# Altium integrated library Res-SMD_V2.IntLib: 2369 symbols (part 13 of 18)
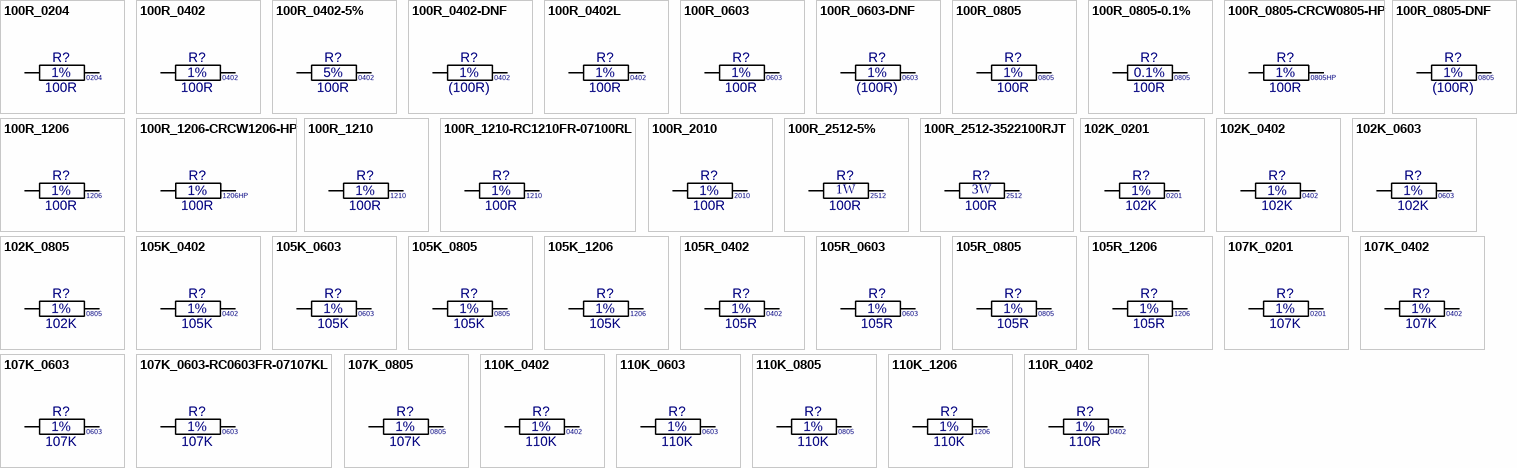
[diagram p71: symbols 100R_0204 to 110R_0402]

## 100R_0805-CRCW0805-HP
designator R?, comment value 100R  Tol: 1%  Text1: 0805HP  (hidden comment: CRCW0805100RFKEAHP)
Resistor Pulse Withstanding Thick Film; Manufacturer: Vishay; Watt: 500mW; Part Number: CRCW0805100RFKEAHP; Package: CRCW0805-HP; EDM-PN: *; Text2: *; Reutech PN: *; SAAB PN: *; DCE Part No: *
footprint CRCW0805-HP (CRCW0805 HP 2.0x1.3mm, IPC Medium Density)
pins: 1, 2

## 100R_0805-DNF
designator R?, comment value (100R)  Tol: 1%  Text1: 0805  (hidden comment: 100R[DNF]_R0805_1%)
Resistor Chip SMD - Do not Fit; Manufacturer: Various; Part Number: DNF - 100R 0805 1%; Watt: 125mW; EDM-PN: DNF; SAAB PN: 1ACF00177AEA; Package: RESC0805X65N; Text2: *; Reutech PN: *; DCE Part No: *
footprint RESC0805X65N (Chip Resistor, 0805, 2-Leads, Body 2.0x1.3mm, IPC Medium Density)
pins: 1, 2

## 100R_1206
designator R?, comment value 100R  Tol: 1%  Text1: 1206  (hidden comment: 100R_R1206_1%)
Resistor Chip SMD; Manufacturer: Various; Part Number: 100R 1206 1%; Watt: 250mW; Package: RESC1206X71N; EDM-PN: *; Text2: *; Reutech PN: 5905-97-1000; SAAB PN: *; DCE Part No: *
footprint RESC1206X71N (Chip Resistor, 1206, 2-Leads, Body 3.2x1.6mm, IPC Medium Density)
pins: 1, 2

## 100R_1206-CRCW1206-HP
designator R?, comment value 100R  Tol: 1%  Text1: 1206HP  (hidden comment: 100R_R1206_1%-CRCW1206-HP)
Resistor Chip Pulse Proof High Power Thick Film; Manufacturer: Vishay; Part Number: CRCW1206100RFKEAHP; Watt: 500mW; Package: CRCW1206-HP; EDM-PN: *; Text2: *; Reutech PN: *; SAAB PN: *; DCE Part No: *
footprint CRCW1206-HP (CCRCW1206-HP 3.2x1.6mm, IPC Medium Density)
pins: 1, 2

## 100R_1210
designator R?, comment value 100R  Tol: 1%  Text1: 1210  (hidden comment: 100R_R1210_1%)
Resistor Chip SMD; Manufacturer: Various; Part Number: 100R 1210 1%; Watt: 500mW; Package: RESC1210X71N; EDM-PN: *; Text2: *; Reutech PN: *; SAAB PN: *; DCE Part No: *
footprint RESC1210X71N (Chip Resistor, 1210, 2-Leads, Body 3.2x2.5mm, IPC Medium Density)
pins: 1, 2

## 100R_1210-RC1210FR-07100RL
designator R?, comment value 100R  Tol: 1%  Text1: 1210  (hidden comment: RC1210FR-07100RL)
Resistor Chip Moisture Resistant Thick Film; Manufacturer: Yageo; Watt: 500mW; Part Number: RC1210FR-07100RL; Package: RESC1210X71N; EDM-PN: *; Text2: *; Reutech PN: *; SAAB PN: *; DCE Part No: *
footprint RESC1210X71N (Chip Resistor, 1210, 2-Leads, Body 3.2x2.5mm, IPC Medium Density)
pins: 1, 2

## 100R_2010
designator R?, comment value 100R  Tol: 1%  Text1: 2010  (hidden comment: 100R_R2010_1%)
Resistor Chip SMD; Manufacturer: Various; Part Number: 100R 2010 1%; Watt: 500mW; Package: RESC2010X71N; EDM-PN: *; Text2: *; Reutech PN: *; SAAB PN: *; DCE Part No: *
footprint RESC2010X71N (Chip Resistor, 2010, 2-Leads, Body 5.0x2.5mm, IPC Medium Density)
pins: 1, 2

## 100R_2512-5%
designator R?, comment value 100R  Watt: 1W  Text1: 2512  (hidden comment: 100R_R2512_5%)
Resistor Chip SMD; Manufacturer: Various; Part Number: 100R 2512 5%; Tol: 5%; Package: RESC2512X71N; EDM-PN: *; Text2: *; Reutech PN: *; SAAB PN: *; DCE Part No: *
footprint RESC2512X71N (Chip Resistor, 2512, 2-Leads, Body 6.3x3.2mm, IPC Medium Density)
pins: 1, 2

## 100R_2512-3522100RJT
designator R?, comment value 100R  Watt: 3W  Text1: 2512  (hidden comment: 3522100RJT)
Resistor Chip Thick Film; Manufacturer: TE Connectivity; Tol: 5%; Part Number: 3522100RJT; Package: RESC2512X71N; EDM-PN: *; Text2: *; Reutech PN: *; SAAB PN: *; DCE Part No: *
footprint RESC2512X71N (Chip Resistor, 2512, 2-Leads, Body 6.3x3.2mm, IPC Medium Density)
pins: 1, 2

## 102K_0201
designator R?, comment value 102K  Tol: 1%  Text1: 0201  (hidden comment: 102K_R0201_1%)
Resistor Chip SMD; Manufacturer: Various; Part Number: 102K 0201 1%; Watt: 31mW; Package: RESC0201X33N; EDM-PN: *; Text2: *; Reutech PN: *; SAAB PN: *; DCE Part No: *
footprint RESC0201X33N (Chip Resistor, 0201, 2-Leads, Body 0.6x0.3mm, IPC Medium Density)
pins: 1, 2

## 102K_0402
designator R?, comment value 102K  Tol: 1%  Text1: 0402  (hidden comment: 102K_R0402_1%)
Resistor Chip SMD; Manufacturer: Various; Part Number: 102K 0402 1%; Watt: 63mW; Package: RESC0402X40N; EDM-PN: *; Text2: *; Reutech PN: *; SAAB PN: *; DCE Part No: *
footprint RESC0402X40N (Chip Resistor, 0402, 2-Leads, Body 1.1x0.5mm, IPC Medium Density)
pins: 1, 2

## 102K_0603
designator R?, comment value 102K  Tol: 1%  Text1: 0603  (hidden comment: 102K_R0603_1%)
Resistor Chip SMD; Manufacturer: Various; Part Number: 102K 0603 1%; Watt: 100mW; Package: RESC0603X60N; EDM-PN: *; Text2: *; Reutech PN: *; SAAB PN: *; DCE Part No: *
footprint RESC0603X60N (Chip Resistor, 0603, 2-Leads, Body 1.6x0.8mm, IPC Medium Density)
pins: 1, 2

## 102K_0805
designator R?, comment value 102K  Tol: 1%  Text1: 0805  (hidden comment: 102K_R0805_1%)
Resistor Chip SMD; Manufacturer: Various; Part Number: 102K 0805 1%; Watt: 125mW; Package: RESC0805X65N; EDM-PN: *; Text2: *; Reutech PN: *; SAAB PN: *; DCE Part No: *
footprint RESC0805X65N (Chip Resistor, 0805, 2-Leads, Body 2.0x1.3mm, IPC Medium Density)
pins: 1, 2

## 105K_0402
designator R?, comment value 105K  Tol: 1%  Text1: 0402  (hidden comment: 105K_R0402_1%)
Resistor Chip SMD; Manufacturer: Various; Part Number: 105K 0402 1%; Watt: 63mW; Package: RESC0402X40N; EDM-PN: *; Text2: *; Reutech PN: *; SAAB PN: *; DCE Part No: *
footprint RESC0402X40N (Chip Resistor, 0402, 2-Leads, Body 1.1x0.5mm, IPC Medium Density)
pins: 1, 2

## 105K_0603
designator R?, comment value 105K  Tol: 1%  Text1: 0603  (hidden comment: 105K_R0603_1%)
Resistor Chip SMD; Manufacturer: Various; Part Number: 105K 0603 1%; Watt: 100mW; EDM-PN: RES1514; Package: RESC0603X60N; Text2: *; Reutech PN: *; SAAB PN: *; DCE Part No: *
footprint RESC0603X60N (Chip Resistor, 0603, 2-Leads, Body 1.6x0.8mm, IPC Medium Density)
pins: 1, 2

## 105K_0805
designator R?, comment value 105K  Tol: 1%  Text1: 0805  (hidden comment: 105K_R0805_1%)
Resistor Chip SMD; Manufacturer: Various; Part Number: 105K 0805 1%; Watt: 125mW; Package: RESC0805X65N; EDM-PN: *; Text2: *; Reutech PN: *; SAAB PN: *; DCE Part No: *
footprint RESC0805X65N (Chip Resistor, 0805, 2-Leads, Body 2.0x1.3mm, IPC Medium Density)
pins: 1, 2

## 105K_1206
designator R?, comment value 105K  Tol: 1%  Text1: 1206  (hidden comment: 105K_R1206_1%)
Resistor Chip SMD; Manufacturer: Various; Part Number: 105K 1206 1%; Watt: 250mW; Package: RESC1206X71N; EDM-PN: *; Text2: *; Reutech PN: *; SAAB PN: *; DCE Part No: *
footprint RESC1206X71N (Chip Resistor, 1206, 2-Leads, Body 3.2x1.6mm, IPC Medium Density)
pins: 1, 2

## 105R_0402
designator R?, comment value 105R  Tol: 1%  Text1: 0402  (hidden comment: 105R_R0402_1%)
Resistor Chip SMD; Manufacturer: Various; Part Number: 105R 0402 1%; Watt: 63mW; Package: RESC0402X40N; EDM-PN: *; Text2: *; Reutech PN: *; SAAB PN: *; DCE Part No: *
footprint RESC0402X40N (Chip Resistor, 0402, 2-Leads, Body 1.1x0.5mm, IPC Medium Density)
pins: 1, 2

## 105R_0603
designator R?, comment value 105R  Tol: 1%  Text1: 0603  (hidden comment: 105R_R0603_1%)
Resistor Chip SMD; Manufacturer: Various; Part Number: 105R 0603 1%; Watt: 100mW; Package: RESC0603X60N; EDM-PN: *; Text2: *; Reutech PN: *; SAAB PN: *; DCE Part No: *
footprint RESC0603X60N (Chip Resistor, 0603, 2-Leads, Body 1.6x0.8mm, IPC Medium Density)
pins: 1, 2

## 105R_0805
designator R?, comment value 105R  Tol: 1%  Text1: 0805  (hidden comment: 105R_R0805_1%)
Resistor Chip SMD; Manufacturer: Various; Part Number: 105R 0805 1%; Watt: 125mW; Package: RESC0805X65N; EDM-PN: *; Text2: *; Reutech PN: *; SAAB PN: *; DCE Part No: *
footprint RESC0805X65N (Chip Resistor, 0805, 2-Leads, Body 2.0x1.3mm, IPC Medium Density)
pins: 1, 2

## 105R_1206
designator R?, comment value 105R  Tol: 1%  Text1: 1206  (hidden comment: 105R_R1206_1%)
Resistor Chip SMD; Manufacturer: Various; Part Number: 105R 1206 1%; Watt: 250mW; Package: RESC1206X71N; EDM-PN: *; Text2: *; Reutech PN: *; SAAB PN: *; DCE Part No: *
footprint RESC1206X71N (Chip Resistor, 1206, 2-Leads, Body 3.2x1.6mm, IPC Medium Density)
pins: 1, 2

## 107K_0201
designator R?, comment value 107K  Tol: 1%  Text1: 0201  (hidden comment: 107K_R0201_1%)
Resistor Chip SMD; Manufacturer: Various; Part Number: 107K 0201 1%; Watt: 31mW; Package: RESC0201X33N; EDM-PN: *; Text2: *; Reutech PN: *; SAAB PN: *; DCE Part No: *
footprint RESC0201X33N (Chip Resistor, 0201, 2-Leads, Body 0.6x0.3mm, IPC Medium Density)
pins: 1, 2

## 107K_0402
designator R?, comment value 107K  Tol: 1%  Text1: 0402  (hidden comment: 107K_R0402_1%)
Resistor Chip SMD; Manufacturer: Various; Part Number: 107K 0402 1%; Watt: 63mW; Package: RESC0402X40N; EDM-PN: *; Text2: *; Reutech PN: *; SAAB PN: *; DCE Part No: *
footprint RESC0402X40N (Chip Resistor, 0402, 2-Leads, Body 1.1x0.5mm, IPC Medium Density)
pins: 1, 2

## 107K_0603
designator R?, comment value 107K  Tol: 1%  Text1: 0603  (hidden comment: 107K_R0603_1%)
Resistor Chip SMD; Manufacturer: Various; Part Number: 107K 0603 1%; Watt: 100mW; Package: RESC0603X60N; EDM-PN: *; Text2: *; Reutech PN: *; SAAB PN: *; DCE Part No: *
footprint RESC0603X60N (Chip Resistor, 0603, 2-Leads, Body 1.6x0.8mm, IPC Medium Density)
pins: 1, 2

## 107K_0603-RC0603FR-07107KL
designator R?, comment value 107K  Tol: 1%  Text1: 0603  (hidden comment: RC0603FR-07107KL)
Resistor Moisture Resistant Thick Film; Manufacturer: Yageo; Watt: 100mW; Part Number: RC0603FR-07107KL; Package: RESC0603X60N; EDM-PN: *; Text2: *; Reutech PN: *; SAAB PN: *; DCE Part No: *
footprint RESC0603X60N (Chip Resistor, 0603, 2-Leads, Body 1.6x0.8mm, IPC Medium Density)
pins: 1, 2

## 107K_0805
designator R?, comment value 107K  Tol: 1%  Text1: 0805  (hidden comment: 107K_R0805_1%)
Resistor Chip SMD; Manufacturer: Various; Part Number: 107K 0805 1%; Watt: 125mW; Package: RESC0805X65N; EDM-PN: *; Text2: *; Reutech PN: *; SAAB PN: *; DCE Part No: *
footprint RESC0805X65N (Chip Resistor, 0805, 2-Leads, Body 2.0x1.3mm, IPC Medium Density)
pins: 1, 2

## 110K_0402
designator R?, comment value 110K  Tol: 1%  Text1: 0402  (hidden comment: 110K_R0402_1%)
Resistor Chip SMD; Manufacturer: Various; Part Number: 110K 0402 1%; Watt: 63mW; Package: RESC0402X40N; EDM-PN: *; Text2: *; Reutech PN: *; SAAB PN: *; DCE Part No: *
footprint RESC0402X40N (Chip Resistor, 0402, 2-Leads, Body 1.1x0.5mm, IPC Medium Density)
pins: 1, 2

## 110K_0603
designator R?, comment value 110K  Tol: 1%  Text1: 0603  (hidden comment: 110K_R0603_1%)
Resistor Chip SMD; Manufacturer: Various; Part Number: 110K 0603 1%; Watt: 100mW; EDM-PN: RES799; Package: RESC0603X60N; Text2: *; Reutech PN: *; SAAB PN: *; DCE Part No: *
footprint RESC0603X60N (Chip Resistor, 0603, 2-Leads, Body 1.6x0.8mm, IPC Medium Density)
pins: 1, 2

## 110K_0805
designator R?, comment value 110K  Tol: 1%  Text1: 0805  (hidden comment: 110K_R0805_1%)
Resistor Chip SMD; Manufacturer: Various; Part Number: 110K 0805 1%; Watt: 125mW; Package: RESC0805X65N; EDM-PN: *; Text2: *; Reutech PN: *; SAAB PN: *; DCE Part No: *
footprint RESC0805X65N (Chip Resistor, 0805, 2-Leads, Body 2.0x1.3mm, IPC Medium Density)
pins: 1, 2

## 110K_1206
designator R?, comment value 110K  Tol: 1%  Text1: 1206  (hidden comment: 110K_R1206_1%)
Resistor Chip SMD; Manufacturer: Various; Part Number: 110K 1206 1%; Watt: 250mW; Package: RESC1206X71N; EDM-PN: *; Text2: *; Reutech PN: *; SAAB PN: *; DCE Part No: *
footprint RESC1206X71N (Chip Resistor, 1206, 2-Leads, Body 3.2x1.6mm, IPC Medium Density)
pins: 1, 2

## 110R_0402
designator R?, comment value 110R  Tol: 1%  Text1: 0402  (hidden comment: 110R_R0402_1%)
Resistor Chip SMD; Manufacturer: Various; Part Number: 110R 0402 1%; Watt: 63mW; Package: RESC0402X40N; EDM-PN: *; Text2: *; Reutech PN: *; SAAB PN: *; DCE Part No: *
footprint RESC0402X40N (Chip Resistor, 0402, 2-Leads, Body 1.1x0.5mm, IPC Medium Density)
pins: 1, 2

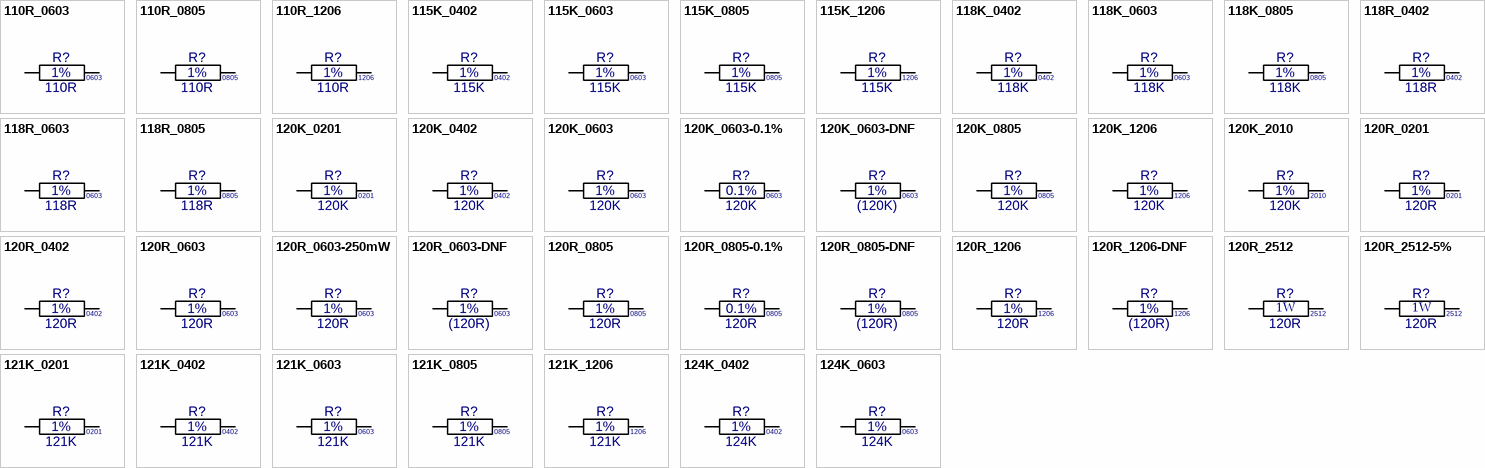
[diagram p41: symbols 110R_0603 to 124K_0603]

## 110R_0603
designator R?, comment value 110R  Tol: 1%  Text1: 0603  (hidden comment: 110R_R0603_1%)
Resistor Chip SMD; Manufacturer: Various; Part Number: 110R 0603 1%; Watt: 100mW; Package: RESC0603X60N; EDM-PN: *; Text2: *; Reutech PN: *; SAAB PN: *; DCE Part No: *
footprint RESC0603X60N (Chip Resistor, 0603, 2-Leads, Body 1.6x0.8mm, IPC Medium Density)
pins: 1, 2

## 110R_0805
designator R?, comment value 110R  Tol: 1%  Text1: 0805  (hidden comment: 110R_R0805_1%)
Resistor Chip SMD; Manufacturer: Various; Part Number: 110R 0805 1%; Watt: 125mW; Package: RESC0805X65N; EDM-PN: *; Text2: *; Reutech PN: *; SAAB PN: *; DCE Part No: *
footprint RESC0805X65N (Chip Resistor, 0805, 2-Leads, Body 2.0x1.3mm, IPC Medium Density)
pins: 1, 2

## 110R_1206
designator R?, comment value 110R  Tol: 1%  Text1: 1206  (hidden comment: 110R_R1206_1%)
Resistor Chip SMD; Manufacturer: Various; Part Number: 110R 1206 1%; Watt: 250mW; Package: RESC1206X71N; EDM-PN: *; Text2: *; Reutech PN: *; SAAB PN: *; DCE Part No: *
footprint RESC1206X71N (Chip Resistor, 1206, 2-Leads, Body 3.2x1.6mm, IPC Medium Density)
pins: 1, 2

## 115K_0402
designator R?, comment value 115K  Tol: 1%  Text1: 0402  (hidden comment: 115K_R0402_1%)
Resistor Chip SMD; Manufacturer: Various; Part Number: 115K 0402 1%; Watt: 63mW; Package: RESC0402X40N; EDM-PN: *; Text2: *; Reutech PN: *; SAAB PN: *; DCE Part No: *
footprint RESC0402X40N (Chip Resistor, 0402, 2-Leads, Body 1.1x0.5mm, IPC Medium Density)
pins: 1, 2

## 115K_0603
designator R?, comment value 115K  Tol: 1%  Text1: 0603  (hidden comment: 115K_R0603_1%)
Resistor Chip SMD; Manufacturer: Various; Part Number: 115K 0603 1%; Watt: 100mW; Package: RESC0603X60N; EDM-PN: *; Text2: *; Reutech PN: *; SAAB PN: *; DCE Part No: *
footprint RESC0603X60N (Chip Resistor, 0603, 2-Leads, Body 1.6x0.8mm, IPC Medium Density)
pins: 1, 2

## 115K_0805
designator R?, comment value 115K  Tol: 1%  Text1: 0805  (hidden comment: 115K_R0805_1%)
Resistor Chip SMD; Manufacturer: Various; Part Number: 115K 0805 1%; Watt: 125mW; Package: RESC0805X65N; EDM-PN: *; Text2: *; Reutech PN: *; SAAB PN: *; DCE Part No: *
footprint RESC0805X65N (Chip Resistor, 0805, 2-Leads, Body 2.0x1.3mm, IPC Medium Density)
pins: 1, 2

## 115K_1206
designator R?, comment value 115K  Tol: 1%  Text1: 1206  (hidden comment: 115K_R1206_1%)
Resistor Chip SMD; Manufacturer: Various; Part Number: 115K 1206 1%; Watt: 250mW; Package: RESC1206X71N; EDM-PN: *; Text2: *; Reutech PN: *; SAAB PN: *; DCE Part No: *
footprint RESC1206X71N (Chip Resistor, 1206, 2-Leads, Body 3.2x1.6mm, IPC Medium Density)
pins: 1, 2

## 118K_0402
designator R?, comment value 118K  Tol: 1%  Text1: 0402  (hidden comment: 118K_R0402_1%)
Resistor Chip SMD; Manufacturer: Various; Part Number: 118K 0402 1%; Watt: 63mW; Package: RESC0402X40N; EDM-PN: *; Text2: *; Reutech PN: *; SAAB PN: *; DCE Part No: *
footprint RESC0402X40N (Chip Resistor, 0402, 2-Leads, Body 1.1x0.5mm, IPC Medium Density)
pins: 1, 2

## 118K_0603
designator R?, comment value 118K  Tol: 1%  Text1: 0603  (hidden comment: 118K_R0603_1%)
Resistor Chip SMD; Manufacturer: Various; Part Number: 118K 0603 1%; Watt: 100mW; Package: RESC0603X60N; EDM-PN: *; Text2: *; Reutech PN: *; SAAB PN: *; DCE Part No: *
footprint RESC0603X60N (Chip Resistor, 0603, 2-Leads, Body 1.6x0.8mm, IPC Medium Density)
pins: 1, 2

## 118K_0805
designator R?, comment value 118K  Tol: 1%  Text1: 0805  (hidden comment: 118K_R0805_1%)
Resistor Chip SMD; Manufacturer: Various; Part Number: 118K 0805 1%; Watt: 125mW; Package: RESC0805X65N; EDM-PN: *; Text2: *; Reutech PN: *; SAAB PN: *; DCE Part No: *
footprint RESC0805X65N (Chip Resistor, 0805, 2-Leads, Body 2.0x1.3mm, IPC Medium Density)
pins: 1, 2

## 118R_0402
designator R?, comment value 118R  Tol: 1%  Text1: 0402  (hidden comment: 118R_R0402_1%)
Resistor Chip SMD; Manufacturer: Various; Part Number: 118R 0402 1%; Watt: 63mW; Package: RESC0402X40N; EDM-PN: *; Text2: *; Reutech PN: *; SAAB PN: *; DCE Part No: *
footprint RESC0402X40N (Chip Resistor, 0402, 2-Leads, Body 1.1x0.5mm, IPC Medium Density)
pins: 1, 2

## 118R_0603
designator R?, comment value 118R  Tol: 1%  Text1: 0603  (hidden comment: 118R_R0603_1%)
Resistor Chip SMD; Manufacturer: Various; Part Number: 118R 0603 1%; Watt: 100mW; Package: RESC0603X60N; EDM-PN: *; Text2: *; Reutech PN: *; SAAB PN: *; DCE Part No: *
footprint RESC0603X60N (Chip Resistor, 0603, 2-Leads, Body 1.6x0.8mm, IPC Medium Density)
pins: 1, 2

## 118R_0805
designator R?, comment value 118R  Tol: 1%  Text1: 0805  (hidden comment: 118R_R0805_1%)
Resistor Chip SMD; Manufacturer: Various; Part Number: 118R 0805 1%; Watt: 125mW; Package: RESC0805X65N; EDM-PN: *; Text2: *; Reutech PN: *; SAAB PN: *; DCE Part No: *
footprint RESC0805X65N (Chip Resistor, 0805, 2-Leads, Body 2.0x1.3mm, IPC Medium Density)
pins: 1, 2

## 120K_0201
designator R?, comment value 120K  Tol: 1%  Text1: 0201  (hidden comment: 120K_R0201_1%)
Resistor Chip SMD; Manufacturer: Various; Part Number: 120K 0201 1%; Watt: 31mW; Package: RESC0201X33N; EDM-PN: *; Text2: *; Reutech PN: *; SAAB PN: *; DCE Part No: *
footprint RESC0201X33N (Chip Resistor, 0201, 2-Leads, Body 0.6x0.3mm, IPC Medium Density)
pins: 1, 2

## 120K_0402
designator R?, comment value 120K  Tol: 1%  Text1: 0402  (hidden comment: 120K_R0402_1%)
Resistor Chip SMD; Manufacturer: Various; Part Number: 120K 0402 1%; Watt: 63mW; Package: RESC0402X40N; EDM-PN: *; Text2: *; Reutech PN: *; SAAB PN: *; DCE Part No: *
footprint RESC0402X40N (Chip Resistor, 0402, 2-Leads, Body 1.1x0.5mm, IPC Medium Density)
pins: 1, 2

## 120K_0603
designator R?, comment value 120K  Tol: 1%  Text1: 0603  (hidden comment: 120K_R0603_1%)
Resistor Chip SMD; Manufacturer: Various; Part Number: 120K 0603 1%; Watt: 100mW; EDM-PN: RES595; Package: RESC0603X60N; Text2: *; Reutech PN: *; SAAB PN: *; DCE Part No: *
footprint RESC0603X60N (Chip Resistor, 0603, 2-Leads, Body 1.6x0.8mm, IPC Medium Density)
pins: 1, 2

## 120K_0603-0.1%
designator R?, comment value 120K  Tol: 0.1%  Text1: 0603  (hidden comment: 120K_R0603_0.1%)
Resistor Chip SMD; Manufacturer: Various; Part Number: 120K 0603 0.1%; Watt: 100mW; Package: RESC0603X60N; EDM-PN: *; Text2: *; Reutech PN: *; SAAB PN: *; DCE Part No: *
footprint RESC0603X60N (Chip Resistor, 0603, 2-Leads, Body 1.6x0.8mm, IPC Medium Density)
pins: 1, 2

## 120K_0603-DNF
designator R?, comment value (120K)  Tol: 1%  Text1: 0603  (hidden comment: 120K_R0603_1%-DNF)
Resistor Chip SMD - Do not Fit; Manufacturer: Various; Part Number: DNF - 120K 0603 1%; Watt: 100mW; EDM-PN: RES595; Package: RESC0603X60N; Text2: *; Reutech PN: *; SAAB PN: *; DCE Part No: *
footprint RESC0603X60N (Chip Resistor, 0603, 2-Leads, Body 1.6x0.8mm, IPC Medium Density)
pins: 1, 2

## 120K_0805
designator R?, comment value 120K  Tol: 1%  Text1: 0805  (hidden comment: 120K_R0805_1%)
Resistor Chip SMD; Manufacturer: Various; Part Number: 120K 0805 1%; Watt: 125mW; Package: RESC0805X65N; EDM-PN: *; Text2: *; Reutech PN: *; SAAB PN: *; DCE Part No: *
footprint RESC0805X65N (Chip Resistor, 0805, 2-Leads, Body 2.0x1.3mm, IPC Medium Density)
pins: 1, 2

## 120K_1206
designator R?, comment value 120K  Tol: 1%  Text1: 1206  (hidden comment: 120K_R1206_1%)
Resistor Chip SMD; Manufacturer: Various; Part Number: 120K 1206 1%; Watt: 250mW; Package: RESC1206X71N; EDM-PN: *; Text2: *; Reutech PN: *; SAAB PN: *; DCE Part No: *
footprint RESC1206X71N (Chip Resistor, 1206, 2-Leads, Body 3.2x1.6mm, IPC Medium Density)
pins: 1, 2

## 120K_2010
designator R?, comment value 120K  Tol: 1%  Text1: 2010  (hidden comment: 120K_R2010_1%)
Resistor Chip SMD; Manufacturer: Various; Part Number: 120K 2010 1%; Watt: 500mW; Package: RESC2010X71N; EDM-PN: *; Text2: *; Reutech PN: *; SAAB PN: *; DCE Part No: *
footprint RESC2010X71N (Chip Resistor, 2010, 2-Leads, Body 5.0x2.5mm, IPC Medium Density)
pins: 1, 2

## 120R_0201
designator R?, comment value 120R  Tol: 1%  Text1: 0201  (hidden comment: 120R_R0201_1%)
Resistor Chip SMD; Manufacturer: Various; Part Number: 120R 0201 1%; Watt: 31mW; Package: RESC0201X33N; EDM-PN: *; Text2: *; Reutech PN: *; SAAB PN: *; DCE Part No: *
footprint RESC0201X33N (Chip Resistor, 0201, 2-Leads, Body 0.6x0.3mm, IPC Medium Density)
pins: 1, 2

## 120R_0402
designator R?, comment value 120R  Tol: 1%  Text1: 0402  (hidden comment: 120R_R0402_1%)
Resistor Chip SMD; Manufacturer: Various; Part Number: 120R 0402 1%; Watt: 63mW; EDM-PN: RES1150; Package: RESC0402X40N; Text2: *; Reutech PN: *; SAAB PN: *; DCE Part No: *
footprint RESC0402X40N (Chip Resistor, 0402, 2-Leads, Body 1.1x0.5mm, IPC Medium Density)
pins: 1, 2

## 120R_0603
designator R?, comment value 120R  Tol: 1%  Text1: 0603  (hidden comment: 120R_R0603_1%)
Resistor Chip SMD; Manufacturer: Various; Part Number: 120R 0603 1%; Watt: 100mW; EDM-PN: RES861; Package: RESC0603X60N; Text2: *; Reutech PN: 5905-93-1200; SAAB PN: *; DCE Part No: *
footprint RESC0603X60N (Chip Resistor, 0603, 2-Leads, Body 1.6x0.8mm, IPC Medium Density)
pins: 1, 2

## 120R_0603-250mW
designator R?, comment value 120R  Tol: 1%  Text1: 0603  (hidden comment: 120R_R0603_1% 250mW)
Resistor Chip SMD; Manufacturer: Various; Part Number: 120R 0603 1% 250mW; Watt: 250mW; Package: RESC0603X60N; EDM-PN: *; Text2: *; Reutech PN: 5905-93-1200; SAAB PN: *; DCE Part No: *
footprint RESC0603X60N (Chip Resistor, 0603, 2-Leads, Body 1.6x0.8mm, IPC Medium Density)
pins: 1, 2

## 120R_0603-DNF
designator R?, comment value (120R)  Tol: 1%  Text1: 0603  (hidden comment: 120R_R0603_1%-DNF)
Resistor Chip SMD - Do not Fit; Manufacturer: Various; Part Number: DNF - 120R 0603 1%; Watt: 100mW; EDM-PN: RES861; Package: RESC0603X60N; Text2: *; Reutech PN: 5905-93-1200; SAAB PN: *; DCE Part No: *
footprint RESC0603X60N (Chip Resistor, 0603, 2-Leads, Body 1.6x0.8mm, IPC Medium Density)
pins: 1, 2

## 120R_0805
designator R?, comment value 120R  Tol: 1%  Text1: 0805  (hidden comment: 120R_R0805_1%)
Resistor Chip SMD; Manufacturer: Various; Part Number: 120R 0805 1%; Watt: 125mW; EDM-PN: RES59; Package: RESC0805X65N; Text2: *; Reutech PN: *; SAAB PN: *; DCE Part No: *
footprint RESC0805X65N (Chip Resistor, 0805, 2-Leads, Body 2.0x1.3mm, IPC Medium Density)
pins: 1, 2

## 120R_0805-0.1%
designator R?, comment value 120R  Tol: 0.1%  Text1: 0805  (hidden comment: 120R_R0805_0.1%)
Resistor Chip SMD; Manufacturer: Various; Part Number: 120R 0805 0.1%; Watt: 125mW; Package: RESC0805X65N; EDM-PN: *; Text2: *; Reutech PN: *; SAAB PN: *; DCE Part No: *
footprint RESC0805X65N (Chip Resistor, 0805, 2-Leads, Body 2.0x1.3mm, IPC Medium Density)
pins: 1, 2

## 120R_0805-DNF
designator R?, comment value (120R)  Tol: 1%  Text1: 0805  (hidden comment: 120R_R0805_1%)
Resistor Chip SMD - Do not Fit; Manufacturer: Various; Part Number: DNF - 120R 0805 1%; Watt: 125mW; EDM-PN: RES59; Package: RESC0805X65N; Text2: *; Reutech PN: *; SAAB PN: *; DCE Part No: *
footprint RESC0805X65N (Chip Resistor, 0805, 2-Leads, Body 2.0x1.3mm, IPC Medium Density)
pins: 1, 2

## 120R_1206
designator R?, comment value 120R  Tol: 1%  Text1: 1206  (hidden comment: 120R_R1206_1%)
Resistor Chip SMD; Manufacturer: Various; Part Number: 120R 1206 1%; Watt: 250mW; EDM-PN: RES224; SAAB PN: 1ACF00063AEA; Package: RESC1206X71N; Text2: *; Reutech PN: 5905-97-1200; DCE Part No: *
footprint RESC1206X71N (Chip Resistor, 1206, 2-Leads, Body 3.2x1.6mm, IPC Medium Density)
pins: 1, 2

## 120R_1206-DNF
designator R?, comment value (120R)  Tol: 1%  Text1: 1206  (hidden comment: 120R_R1206_1%-DNF)
Resistor Chip SMD - Do not Fit; Manufacturer: Various; Part Number: DNF - 120R 1206 1%; Watt: 250mW; EDM-PN: RES224; SAAB PN: 1ACF00063AEA; Package: RESC1206X71N; Text2: *; Reutech PN: 5905-97-1200; DCE Part No: *
footprint RESC1206X71N (Chip Resistor, 1206, 2-Leads, Body 3.2x1.6mm, IPC Medium Density)
pins: 1, 2

## 120R_2512
designator R?, comment value 120R  Watt: 1W  Text1: 2512  (hidden comment: 120R_R2512)
Resistor Chip SMD; Manufacturer: Various; Part Number: 120R 2512 1%; Tol: 1%; Package: RESC2512X71N; EDM-PN: *; Text2: *; Reutech PN: *; SAAB PN: *; DCE Part No: *
footprint RESC2512X71N (Chip Resistor, 2512, 2-Leads, Body 6.3x3.2mm, IPC Medium Density)
pins: 1, 2

## 120R_2512-5%
designator R?, comment value 120R  Watt: 1W  Text1: 2512  (hidden comment: 120R_R2512_5%)
Resistor Chip SMD; Manufacturer: Various; Part Number: 120R 2512 5%; Tol: 5%; Package: RESC2512X71N; EDM-PN: *; Text2: *; Reutech PN: *; SAAB PN: *; DCE Part No: *
footprint RESC2512X71N (Chip Resistor, 2512, 2-Leads, Body 6.3x3.2mm, IPC Medium Density)
pins: 1, 2

## 121K_0201
designator R?, comment value 121K  Tol: 1%  Text1: 0201  (hidden comment: 121K_R0201_1%)
Resistor Chip SMD; Manufacturer: Various; Part Number: 121K 0201 1%; Watt: 31mW; Package: RESC0201X33N; EDM-PN: *; Text2: *; Reutech PN: *; SAAB PN: *; DCE Part No: *
footprint RESC0201X33N (Chip Resistor, 0201, 2-Leads, Body 0.6x0.3mm, IPC Medium Density)
pins: 1, 2

## 121K_0402
designator R?, comment value 121K  Tol: 1%  Text1: 0402  (hidden comment: 121K_R0402_1%)
Resistor Chip SMD; Manufacturer: Various; Part Number: 121K 0402 1%; Watt: 63mW; Package: RESC0402X40N; EDM-PN: *; Text2: *; Reutech PN: *; SAAB PN: *; DCE Part No: *
footprint RESC0402X40N (Chip Resistor, 0402, 2-Leads, Body 1.1x0.5mm, IPC Medium Density)
pins: 1, 2

## 121K_0603
designator R?, comment value 121K  Tol: 1%  Text1: 0603  (hidden comment: 121K_R0603_1%)
Resistor Chip SMD; Manufacturer: Various; Part Number: 121K 0603 1%; Watt: 100mW; EDM-PN: RES1003; Package: RESC0603X60N; Text2: *; Reutech PN: *; SAAB PN: *; DCE Part No: *
footprint RESC0603X60N (Chip Resistor, 0603, 2-Leads, Body 1.6x0.8mm, IPC Medium Density)
pins: 1, 2

## 121K_0805
designator R?, comment value 121K  Tol: 1%  Text1: 0805  (hidden comment: 121K_R0805_1%)
Resistor Chip SMD; Manufacturer: Various; Part Number: 121K 0805 1%; Watt: 125mW; Package: RESC0805X65N; EDM-PN: *; Text2: *; Reutech PN: *; SAAB PN: *; DCE Part No: *
footprint RESC0805X65N (Chip Resistor, 0805, 2-Leads, Body 2.0x1.3mm, IPC Medium Density)
pins: 1, 2

## 121K_1206
designator R?, comment value 121K  Tol: 1%  Text1: 1206  (hidden comment: 121K_R1206_1%)
Resistor Chip SMD; Manufacturer: Various; Part Number: 121K 1206 1%; Watt: 250mW; Package: RESC1206X71N; EDM-PN: *; Text2: *; Reutech PN: *; SAAB PN: *; DCE Part No: *
footprint RESC1206X71N (Chip Resistor, 1206, 2-Leads, Body 3.2x1.6mm, IPC Medium Density)
pins: 1, 2

## 124K_0402
designator R?, comment value 124K  Tol: 1%  Text1: 0402  (hidden comment: 124K_R0402_1%)
Resistor Chip SMD; Manufacturer: Various; Part Number: 124K 0402 1%; Watt: 63mW; Package: RESC0402X40N; EDM-PN: *; Text2: *; Reutech PN: *; SAAB PN: *; DCE Part No: *
footprint RESC0402X40N (Chip Resistor, 0402, 2-Leads, Body 1.1x0.5mm, IPC Medium Density)
pins: 1, 2

## 124K_0603
designator R?, comment value 124K  Tol: 1%  Text1: 0603  (hidden comment: 124K_R0603_1%)
Resistor Chip SMD; Manufacturer: Various; Part Number: 124K 0603 1%; Watt: 100mW; Package: RESC0603X60N; EDM-PN: *; Text2: *; Reutech PN: *; SAAB PN: *; DCE Part No: *
footprint RESC0603X60N (Chip Resistor, 0603, 2-Leads, Body 1.6x0.8mm, IPC Medium Density)
pins: 1, 2

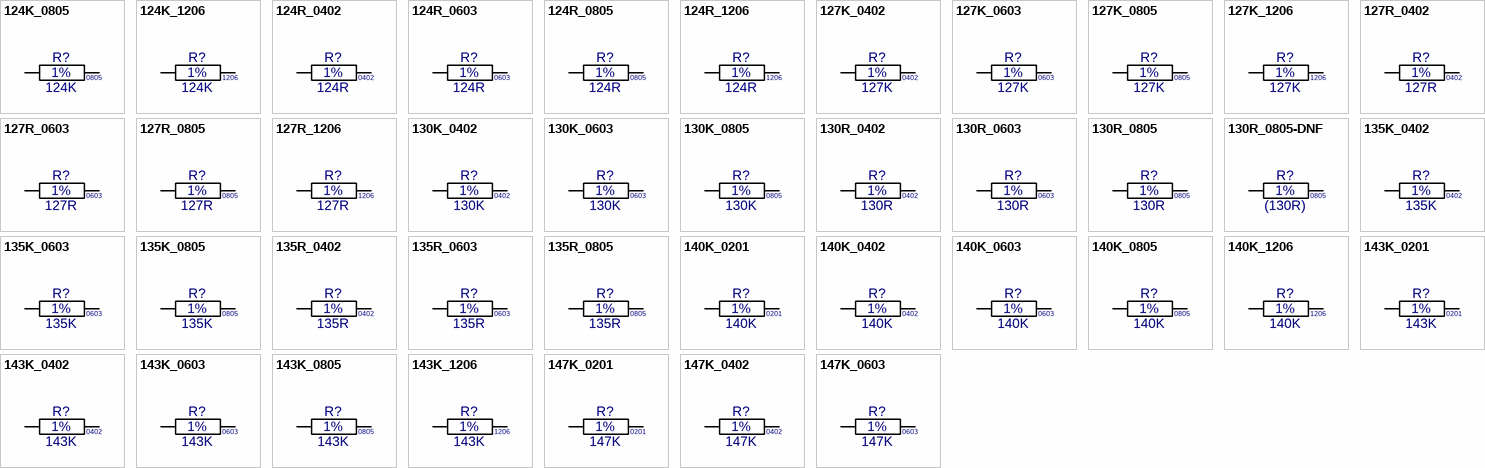
[diagram p42: symbols 124K_0805 to 147K_0603]

## 124K_0805
designator R?, comment value 124K  Tol: 1%  Text1: 0805  (hidden comment: 124K_R0805_1%)
Resistor Chip SMD; Manufacturer: Various; Part Number: 124K 0805 1%; Watt: 125mW; Package: RESC0805X65N; EDM-PN: *; Text2: *; Reutech PN: *; SAAB PN: *; DCE Part No: *
footprint RESC0805X65N (Chip Resistor, 0805, 2-Leads, Body 2.0x1.3mm, IPC Medium Density)
pins: 1, 2

## 124K_1206
designator R?, comment value 124K  Tol: 1%  Text1: 1206  (hidden comment: 124K_R1206_1%)
Resistor Chip SMD; Manufacturer: Various; Part Number: 124K 1206 1%; Watt: 250mW; Package: RESC1206X71N; EDM-PN: *; Text2: *; Reutech PN: *; SAAB PN: *; DCE Part No: *
footprint RESC1206X71N (Chip Resistor, 1206, 2-Leads, Body 3.2x1.6mm, IPC Medium Density)
pins: 1, 2

## 124R_0402
designator R?, comment value 124R  Tol: 1%  Text1: 0402  (hidden comment: 124R_R0402_1%)
Resistor Chip SMD; Manufacturer: Various; Part Number: 124R 0402 1%; Watt: 63mW; Package: RESC0402X40N; EDM-PN: *; Text2: *; Reutech PN: *; SAAB PN: *; DCE Part No: *
footprint RESC0402X40N (Chip Resistor, 0402, 2-Leads, Body 1.1x0.5mm, IPC Medium Density)
pins: 1, 2

## 124R_0603
designator R?, comment value 124R  Tol: 1%  Text1: 0603  (hidden comment: 124R_R0603_1%)
Resistor Chip SMD; Manufacturer: Various; Part Number: 124R 0603 1%; Watt: 100mW; Package: RESC0603X60N; EDM-PN: *; Text2: *; Reutech PN: *; SAAB PN: *; DCE Part No: *
footprint RESC0603X60N (Chip Resistor, 0603, 2-Leads, Body 1.6x0.8mm, IPC Medium Density)
pins: 1, 2

## 124R_0805
designator R?, comment value 124R  Tol: 1%  Text1: 0805  (hidden comment: 124R_R0805_1%)
Resistor Chip SMD; Manufacturer: Various; Part Number: 124R 0805 1%; Watt: 125mW; Package: RESC0805X65N; EDM-PN: *; Text2: *; Reutech PN: *; SAAB PN: *; DCE Part No: *
footprint RESC0805X65N (Chip Resistor, 0805, 2-Leads, Body 2.0x1.3mm, IPC Medium Density)
pins: 1, 2

## 124R_1206
designator R?, comment value 124R  Tol: 1%  Text1: 1206  (hidden comment: 124R_R1206_1%)
Resistor Chip SMD; Manufacturer: Various; Part Number: 124R 1206 1%; Watt: 250mW; Package: RESC1206X71N; EDM-PN: *; Text2: *; Reutech PN: *; SAAB PN: *; DCE Part No: *
footprint RESC1206X71N (Chip Resistor, 1206, 2-Leads, Body 3.2x1.6mm, IPC Medium Density)
pins: 1, 2

## 127K_0402
designator R?, comment value 127K  Tol: 1%  Text1: 0402  (hidden comment: 127K_R0402_1%)
Resistor Chip SMD; Manufacturer: Various; Part Number: 127K 0402 1%; Watt: 63mW; Package: RESC0402X40N; EDM-PN: *; Text2: *; Reutech PN: *; SAAB PN: *; DCE Part No: *
footprint RESC0402X40N (Chip Resistor, 0402, 2-Leads, Body 1.1x0.5mm, IPC Medium Density)
pins: 1, 2

## 127K_0603
designator R?, comment value 127K  Tol: 1%  Text1: 0603  (hidden comment: 127K_R0603_1%)
Resistor Chip SMD; Manufacturer: Various; Part Number: 127K 0603 1%; Watt: 100mW; Package: RESC0603X60N; EDM-PN: *; Text2: *; Reutech PN: *; SAAB PN: *; DCE Part No: *
footprint RESC0603X60N (Chip Resistor, 0603, 2-Leads, Body 1.6x0.8mm, IPC Medium Density)
pins: 1, 2

## 127K_0805
designator R?, comment value 127K  Tol: 1%  Text1: 0805  (hidden comment: 127K_R0805_1%)
Resistor Chip SMD; Manufacturer: Various; Part Number: 127K 0805 1%; Watt: 125mW; Package: RESC0805X65N; EDM-PN: *; Text2: *; Reutech PN: *; SAAB PN: *; DCE Part No: *
footprint RESC0805X65N (Chip Resistor, 0805, 2-Leads, Body 2.0x1.3mm, IPC Medium Density)
pins: 1, 2

## 127K_1206
designator R?, comment value 127K  Tol: 1%  Text1: 1206  (hidden comment: 127K_R1206_1%)
Resistor Chip SMD; Manufacturer: Various; Part Number: 127K 1206 1%; Watt: 250mW; Package: RESC1206X71N; EDM-PN: *; Text2: *; Reutech PN: *; SAAB PN: *; DCE Part No: *
footprint RESC1206X71N (Chip Resistor, 1206, 2-Leads, Body 3.2x1.6mm, IPC Medium Density)
pins: 1, 2

## 127R_0402
designator R?, comment value 127R  Tol: 1%  Text1: 0402  (hidden comment: 127R_R0402_1%)
Resistor Chip SMD; Manufacturer: Various; Part Number: 127R 0402 1%; Watt: 63mW; Package: RESC0402X40N; EDM-PN: *; Text2: *; Reutech PN: *; SAAB PN: *; DCE Part No: *
footprint RESC0402X40N (Chip Resistor, 0402, 2-Leads, Body 1.1x0.5mm, IPC Medium Density)
pins: 1, 2

## 127R_0603
designator R?, comment value 127R  Tol: 1%  Text1: 0603  (hidden comment: 127R_R0603_1%)
Resistor Chip SMD; Manufacturer: Various; Part Number: 127R 0603 1%; Watt: 100mW; Package: RESC0603X60N; EDM-PN: *; Text2: *; Reutech PN: *; SAAB PN: *; DCE Part No: *
footprint RESC0603X60N (Chip Resistor, 0603, 2-Leads, Body 1.6x0.8mm, IPC Medium Density)
pins: 1, 2

## 127R_0805
designator R?, comment value 127R  Tol: 1%  Text1: 0805  (hidden comment: 127R_R0805_1%)
Resistor Chip SMD; Manufacturer: Various; Part Number: 127R 0805 1%; Watt: 125mW; Package: RESC0805X65N; EDM-PN: *; Text2: *; Reutech PN: *; SAAB PN: *; DCE Part No: *
footprint RESC0805X65N (Chip Resistor, 0805, 2-Leads, Body 2.0x1.3mm, IPC Medium Density)
pins: 1, 2

## 127R_1206
designator R?, comment value 127R  Tol: 1%  Text1: 1206  (hidden comment: 127R_R1206_1%)
Resistor Chip SMD; Manufacturer: Various; Part Number: 127R 1206 1%; Watt: 250mW; Package: RESC1206X71N; EDM-PN: *; Text2: *; Reutech PN: *; SAAB PN: *; DCE Part No: *
footprint RESC1206X71N (Chip Resistor, 1206, 2-Leads, Body 3.2x1.6mm, IPC Medium Density)
pins: 1, 2

## 130K_0402
designator R?, comment value 130K  Tol: 1%  Text1: 0402  (hidden comment: 130K_R0402_1%)
Resistor Chip SMD; Manufacturer: Various; Part Number: 130K 0402 1%; Watt: 63mW; Package: RESC0402X40N; EDM-PN: *; Text2: *; Reutech PN: *; SAAB PN: *; DCE Part No: *
footprint RESC0402X40N (Chip Resistor, 0402, 2-Leads, Body 1.1x0.5mm, IPC Medium Density)
pins: 1, 2

## 130K_0603
designator R?, comment value 130K  Tol: 1%  Text1: 0603  (hidden comment: 130K_R0603_1%)
Resistor Chip SMD; Manufacturer: Various; Part Number: 130K 0603 1%; Watt: 100mW; EDM-PN: RES600; Package: RESC0603X60N; Text2: *; Reutech PN: *; SAAB PN: *; DCE Part No: *
footprint RESC0603X60N (Chip Resistor, 0603, 2-Leads, Body 1.6x0.8mm, IPC Medium Density)
pins: 1, 2

## 130K_0805
designator R?, comment value 130K  Tol: 1%  Text1: 0805  (hidden comment: 130K_R0805_1%)
Resistor Chip SMD; Manufacturer: Various; Part Number: 130K 0805 1%; Watt: 125mW; Package: RESC0805X65N; EDM-PN: *; Text2: *; Reutech PN: *; SAAB PN: *; DCE Part No: *
footprint RESC0805X65N (Chip Resistor, 0805, 2-Leads, Body 2.0x1.3mm, IPC Medium Density)
pins: 1, 2

## 130R_0402
designator R?, comment value 130R  Tol: 1%  Text1: 0402  (hidden comment: 130R_R0402_1%)
Resistor Chip SMD; Manufacturer: Various; Part Number: 130R 0402 1%; Watt: 63mW; Package: RESC0402X40N; EDM-PN: *; Text2: *; Reutech PN: *; SAAB PN: *; DCE Part No: *
footprint RESC0402X40N (Chip Resistor, 0402, 2-Leads, Body 1.1x0.5mm, IPC Medium Density)
pins: 1, 2

## 130R_0603
designator R?, comment value 130R  Tol: 1%  Text1: 0603  (hidden comment: 130R_R0603_1%)
Resistor Chip SMD; Manufacturer: Various; Part Number: 130R 0603 1%; Watt: 100mW; Package: RESC0603X60N; EDM-PN: *; Text2: *; Reutech PN: *; SAAB PN: *; DCE Part No: *
footprint RESC0603X60N (Chip Resistor, 0603, 2-Leads, Body 1.6x0.8mm, IPC Medium Density)
pins: 1, 2

## 130R_0805
designator R?, comment value 130R  Tol: 1%  Text1: 0805  (hidden comment: 130R_R0805_1%)
Resistor Chip SMD; Manufacturer: Various; Part Number: 130R 0805 1%; Watt: 125mW; Package: RESC0805X65N; EDM-PN: *; Text2: *; Reutech PN: *; SAAB PN: *; DCE Part No: *
footprint RESC0805X65N (Chip Resistor, 0805, 2-Leads, Body 2.0x1.3mm, IPC Medium Density)
pins: 1, 2

## 130R_0805-DNF
designator R?, comment value (130R)  Tol: 1%  Text1: 0805  (hidden comment: 130R_R0805_1%-DNF)
Resistor Chip SMD - Do not Fit; Manufacturer: Various; Part Number: DNF - 130R 0805 1%; Watt: 125mW; Package: RESC0805X65N; EDM-PN: *; Text2: *; Reutech PN: *; SAAB PN: *; DCE Part No: *
footprint RESC0805X65N (Chip Resistor, 0805, 2-Leads, Body 2.0x1.3mm, IPC Medium Density)
pins: 1, 2

## 135K_0402
designator R?, comment value 135K  Tol: 1%  Text1: 0402  (hidden comment: 135K_R0402_1%)
Resistor Chip SMD; Manufacturer: Various; Part Number: 135K 0402 1%; Watt: 63mW; Package: RESC0402X40N; EDM-PN: *; Text2: *; Reutech PN: *; SAAB PN: *; DCE Part No: *
footprint RESC0402X40N (Chip Resistor, 0402, 2-Leads, Body 1.1x0.5mm, IPC Medium Density)
pins: 1, 2

## 135K_0603
designator R?, comment value 135K  Tol: 1%  Text1: 0603  (hidden comment: 135K_R0603_1%)
Resistor Chip SMD; Manufacturer: Various; Part Number: 135K 0603 1%; Watt: 100mW; Package: RESC0603X60N; EDM-PN: *; Text2: *; Reutech PN: *; SAAB PN: *; DCE Part No: *
footprint RESC0603X60N (Chip Resistor, 0603, 2-Leads, Body 1.6x0.8mm, IPC Medium Density)
pins: 1, 2

## 135K_0805
designator R?, comment value 135K  Tol: 1%  Text1: 0805  (hidden comment: 135K_R0805_1%)
Resistor Chip SMD; Manufacturer: Various; Part Number: 135K 0805 1%; Watt: 125mW; Package: RESC0805X65N; EDM-PN: *; Text2: *; Reutech PN: *; SAAB PN: *; DCE Part No: *
footprint RESC0805X65N (Chip Resistor, 0805, 2-Leads, Body 2.0x1.3mm, IPC Medium Density)
pins: 1, 2

## 135R_0402
designator R?, comment value 135R  Tol: 1%  Text1: 0402  (hidden comment: 135R_R0402_1%)
Resistor Chip SMD; Manufacturer: Various; Part Number: 135R 0402 1%; Watt: 63mW; Package: RESC0402X40N; EDM-PN: *; Text2: *; Reutech PN: *; SAAB PN: *; DCE Part No: *
footprint RESC0402X40N (Chip Resistor, 0402, 2-Leads, Body 1.1x0.5mm, IPC Medium Density)
pins: 1, 2

## 135R_0603
designator R?, comment value 135R  Tol: 1%  Text1: 0603  (hidden comment: 135R_R0603_1%)
Resistor Chip SMD; Manufacturer: Various; Part Number: 135R 0603 1%; Watt: 100mW; Package: RESC0603X60N; EDM-PN: *; Text2: *; Reutech PN: *; SAAB PN: *; DCE Part No: *
footprint RESC0603X60N (Chip Resistor, 0603, 2-Leads, Body 1.6x0.8mm, IPC Medium Density)
pins: 1, 2

## 135R_0805
designator R?, comment value 135R  Tol: 1%  Text1: 0805  (hidden comment: 135R_R0805_1%)
Resistor Chip SMD; Manufacturer: Various; Part Number: 135R 0805 1%; Watt: 125mW; Package: RESC0805X65N; EDM-PN: *; Text2: *; Reutech PN: *; SAAB PN: *; DCE Part No: *
footprint RESC0805X65N (Chip Resistor, 0805, 2-Leads, Body 2.0x1.3mm, IPC Medium Density)
pins: 1, 2

## 140K_0201
designator R?, comment value 140K  Tol: 1%  Text1: 0201  (hidden comment: 140K_R0201_1%)
Resistor Chip SMD; Manufacturer: Various; Part Number: 140K 0201 1%; Watt: 31mW; Package: RESC0201X33N; EDM-PN: *; Text2: *; Reutech PN: *; SAAB PN: *; DCE Part No: *
footprint RESC0201X33N (Chip Resistor, 0201, 2-Leads, Body 0.6x0.3mm, IPC Medium Density)
pins: 1, 2

## 140K_0402
designator R?, comment value 140K  Tol: 1%  Text1: 0402  (hidden comment: 140K_R0402_1%)
Resistor Chip SMD; Manufacturer: Various; Part Number: 140K 0402 1%; Watt: 63mW; EDM-PN: RES1567; Package: RESC0402X40N; Text2: *; Reutech PN: *; SAAB PN: *; DCE Part No: *
footprint RESC0402X40N (Chip Resistor, 0402, 2-Leads, Body 1.1x0.5mm, IPC Medium Density)
pins: 1, 2

## 140K_0603
designator R?, comment value 140K  Tol: 1%  Text1: 0603  (hidden comment: 140K_R0603_1%)
Resistor Chip SMD; Manufacturer: Various; Part Number: 140K 0603 1%; Watt: 100mW; EDM-PN: RES1003; Package: RESC0603X60N; Text2: *; Reutech PN: *; SAAB PN: *; DCE Part No: *
footprint RESC0603X60N (Chip Resistor, 0603, 2-Leads, Body 1.6x0.8mm, IPC Medium Density)
pins: 1, 2

## 140K_0805
designator R?, comment value 140K  Tol: 1%  Text1: 0805  (hidden comment: 140K_R0805_1%)
Resistor Chip SMD; Manufacturer: Various; Part Number: 140K 0805 1%; Watt: 125mW; Package: RESC0805X65N; EDM-PN: *; Text2: *; Reutech PN: *; SAAB PN: *; DCE Part No: *
footprint RESC0805X65N (Chip Resistor, 0805, 2-Leads, Body 2.0x1.3mm, IPC Medium Density)
pins: 1, 2

## 140K_1206
designator R?, comment value 140K  Tol: 1%  Text1: 1206  (hidden comment: 140K_R1206_1%)
Resistor Chip SMD; Manufacturer: Various; Part Number: 140K 1206 1%; Watt: 250mW; Package: RESC1206X71N; EDM-PN: *; Text2: *; Reutech PN: *; SAAB PN: *; DCE Part No: *
footprint RESC1206X71N (Chip Resistor, 1206, 2-Leads, Body 3.2x1.6mm, IPC Medium Density)
pins: 1, 2

## 143K_0201
designator R?, comment value 143K  Tol: 1%  Text1: 0201  (hidden comment: 143K_R0201_1%)
Resistor Chip SMD; Manufacturer: Various; Part Number: 143K 0201 1%; Watt: 31mW; Package: RESC0201X33N; EDM-PN: *; Text2: *; Reutech PN: *; SAAB PN: *; DCE Part No: *
footprint RESC0201X33N (Chip Resistor, 0201, 2-Leads, Body 0.6x0.3mm, IPC Medium Density)
pins: 1, 2

## 143K_0402
designator R?, comment value 143K  Tol: 1%  Text1: 0402  (hidden comment: 143K_R0402_1%)
Resistor Chip SMD; Manufacturer: Various; Part Number: 143K 0402 1%; Watt: 63mW; Package: RESC0402X40N; EDM-PN: *; Text2: *; Reutech PN: *; SAAB PN: *; DCE Part No: *
footprint RESC0402X40N (Chip Resistor, 0402, 2-Leads, Body 1.1x0.5mm, IPC Medium Density)
pins: 1, 2

## 143K_0603
designator R?, comment value 143K  Tol: 1%  Text1: 0603  (hidden comment: 143K_R0603_1%)
Resistor Chip SMD; Manufacturer: Various; Part Number: 143K 0603 1%; Watt: 100mW; Package: RESC0603X60N; EDM-PN: *; Text2: *; Reutech PN: *; SAAB PN: *; DCE Part No: *
footprint RESC0603X60N (Chip Resistor, 0603, 2-Leads, Body 1.6x0.8mm, IPC Medium Density)
pins: 1, 2

## 143K_0805
designator R?, comment value 143K  Tol: 1%  Text1: 0805  (hidden comment: 143K_R0805_1%)
Resistor Chip SMD; Manufacturer: Various; Part Number: 143K 0805 1%; Watt: 125mW; Package: RESC0805X65N; EDM-PN: *; Text2: *; Reutech PN: *; SAAB PN: *; DCE Part No: *
footprint RESC0805X65N (Chip Resistor, 0805, 2-Leads, Body 2.0x1.3mm, IPC Medium Density)
pins: 1, 2

## 143K_1206
designator R?, comment value 143K  Tol: 1%  Text1: 1206  (hidden comment: 143K_R1206_1%)
Resistor Chip SMD; Manufacturer: Various; Part Number: 143K 1206 1%; Watt: 250mW; Package: RESC1206X71N; EDM-PN: *; Text2: *; Reutech PN: *; SAAB PN: *; DCE Part No: *
footprint RESC1206X71N (Chip Resistor, 1206, 2-Leads, Body 3.2x1.6mm, IPC Medium Density)
pins: 1, 2

## 147K_0201
designator R?, comment value 147K  Tol: 1%  Text1: 0201  (hidden comment: 147K_R0201_1%)
Resistor Chip SMD; Manufacturer: Various; Part Number: 147K 0201 1%; Watt: 31mW; Package: RESC0201X33N; EDM-PN: *; Text2: *; Reutech PN: *; SAAB PN: *; DCE Part No: *
footprint RESC0201X33N (Chip Resistor, 0201, 2-Leads, Body 0.6x0.3mm, IPC Medium Density)
pins: 1, 2

## 147K_0402
designator R?, comment value 147K  Tol: 1%  Text1: 0402  (hidden comment: 147K_R0402_1%)
Resistor Chip SMD; Manufacturer: Various; Part Number: 147K 0402 1%; Watt: 63mW; Package: RESC0402X40N; EDM-PN: *; Text2: *; Reutech PN: *; SAAB PN: *; DCE Part No: *
footprint RESC0402X40N (Chip Resistor, 0402, 2-Leads, Body 1.1x0.5mm, IPC Medium Density)
pins: 1, 2

## 147K_0603
designator R?, comment value 147K  Tol: 1%  Text1: 0603  (hidden comment: 147K_R0603_1%)
Resistor Chip SMD; Manufacturer: Various; Part Number: 147K 0603 1%; Watt: 100mW; Package: RESC0603X60N; EDM-PN: *; Text2: *; Reutech PN: *; SAAB PN: *; DCE Part No: *
footprint RESC0603X60N (Chip Resistor, 0603, 2-Leads, Body 1.6x0.8mm, IPC Medium Density)
pins: 1, 2

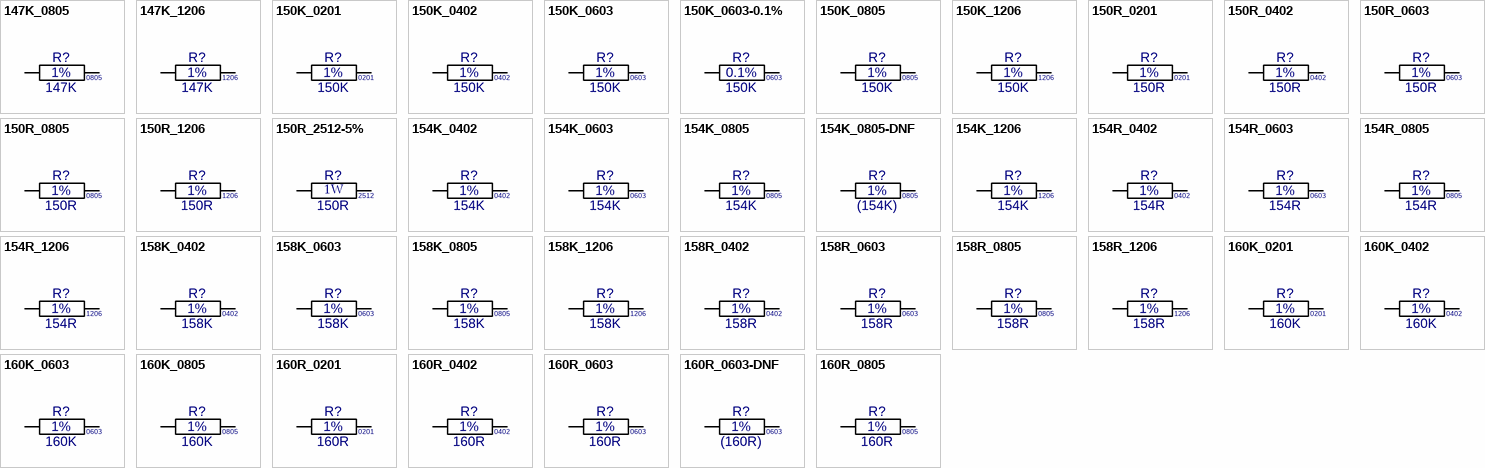
[diagram p43: symbols 147K_0805 to 160R_0805]

## 147K_0805
designator R?, comment value 147K  Tol: 1%  Text1: 0805  (hidden comment: 147K_R0805_1%)
Resistor Chip SMD; Manufacturer: Various; Part Number: 147K 0805 1%; Watt: 125mW; Package: RESC0805X65N; EDM-PN: *; Text2: *; Reutech PN: *; SAAB PN: *; DCE Part No: *
footprint RESC0805X65N (Chip Resistor, 0805, 2-Leads, Body 2.0x1.3mm, IPC Medium Density)
pins: 1, 2

## 147K_1206
designator R?, comment value 147K  Tol: 1%  Text1: 1206  (hidden comment: 147K_R1206_1%)
Resistor Chip SMD; Manufacturer: Various; Part Number: 147K 1206 1%; Watt: 250mW; Package: RESC1206X71N; EDM-PN: *; Text2: *; Reutech PN: *; SAAB PN: *; DCE Part No: *
footprint RESC1206X71N (Chip Resistor, 1206, 2-Leads, Body 3.2x1.6mm, IPC Medium Density)
pins: 1, 2

## 150K_0201
designator R?, comment value 150K  Tol: 1%  Text1: 0201  (hidden comment: 150K_R0201_1%)
Resistor Chip SMD; Manufacturer: Various; Part Number: 150K 0201 1%; Watt: 31mW; Package: RESC0201X33N; EDM-PN: *; Text2: *; Reutech PN: *; SAAB PN: *; DCE Part No: *
footprint RESC0201X33N (Chip Resistor, 0201, 2-Leads, Body 0.6x0.3mm, IPC Medium Density)
pins: 1, 2

## 150K_0402
designator R?, comment value 150K  Tol: 1%  Text1: 0402  (hidden comment: 150K_R0402_1%)
Resistor Chip SMD; Manufacturer: Various; Part Number: 150K 0402 1%; Watt: 63mW; Package: RESC0402X40N; EDM-PN: *; Text2: *; Reutech PN: *; SAAB PN: *; DCE Part No: *
footprint RESC0402X40N (Chip Resistor, 0402, 2-Leads, Body 1.1x0.5mm, IPC Medium Density)
pins: 1, 2

## 150K_0603
designator R?, comment value 150K  Tol: 1%  Text1: 0603  (hidden comment: 150K_R0603_1%)
Resistor Chip SMD; Manufacturer: Various; Part Number: 150K 0603 1%; Watt: 100mW; EDM-PN: RES1003; Package: RESC0603X60N; Text2: *; Reutech PN: *; SAAB PN: *; DCE Part No: *
footprint RESC0603X60N (Chip Resistor, 0603, 2-Leads, Body 1.6x0.8mm, IPC Medium Density)
pins: 1, 2

## 150K_0603-0.1%
designator R?, comment value 150K  Tol: 0.1%  Text1: 0603  (hidden comment: 150K_R0603_0.1%)
Resistor Chip SMD; Manufacturer: Various; Part Number: 150K 0603 0.1%; Watt: 100mW; Package: RESC0603X60N; EDM-PN: *; Text2: *; Reutech PN: *; SAAB PN: *; DCE Part No: *
footprint RESC0603X60N (Chip Resistor, 0603, 2-Leads, Body 1.6x0.8mm, IPC Medium Density)
pins: 1, 2

## 150K_0805
designator R?, comment value 150K  Tol: 1%  Text1: 0805  (hidden comment: 150K_R0805_1%)
Resistor Chip SMD; Manufacturer: Various; Part Number: 150K 0805 1%; Watt: 125mW; Package: RESC0805X65N; EDM-PN: *; Text2: *; Reutech PN: *; SAAB PN: *; DCE Part No: *
footprint RESC0805X65N (Chip Resistor, 0805, 2-Leads, Body 2.0x1.3mm, IPC Medium Density)
pins: 1, 2

## 150K_1206
designator R?, comment value 150K  Tol: 1%  Text1: 1206  (hidden comment: 150K_R1206_1%)
Resistor Chip SMD; Manufacturer: Various; Part Number: 150K 1206 1%; Watt: 250mW; Package: RESC1206X71N; EDM-PN: *; Text2: *; Reutech PN: *; SAAB PN: *; DCE Part No: *
footprint RESC1206X71N (Chip Resistor, 1206, 2-Leads, Body 3.2x1.6mm, IPC Medium Density)
pins: 1, 2

## 150R_0201
designator R?, comment value 150R  Tol: 1%  Text1: 0201  (hidden comment: 150R_R0201_1%)
Resistor Chip SMD; Manufacturer: Various; Part Number: 150R 0201 1%; Watt: 31mW; Package: RESC0201X33N; EDM-PN: *; Text2: *; Reutech PN: *; SAAB PN: *; DCE Part No: *
footprint RESC0201X33N (Chip Resistor, 0201, 2-Leads, Body 0.6x0.3mm, IPC Medium Density)
pins: 1, 2

## 150R_0402
designator R?, comment value 150R  Tol: 1%  Text1: 0402  (hidden comment: 150R_R0402_1%)
Resistor Chip SMD; Manufacturer: Various; Part Number: 150R 0402 1%; Watt: 63mW; Package: RESC0402X40N; EDM-PN: *; Text2: *; Reutech PN: *; SAAB PN: *; DCE Part No: *
footprint RESC0402X40N (Chip Resistor, 0402, 2-Leads, Body 1.1x0.5mm, IPC Medium Density)
pins: 1, 2

## 150R_0603
designator R?, comment value 150R  Tol: 1%  Text1: 0603  (hidden comment: 150R_R0603_1%)
Resistor Chip SMD; Manufacturer: Various; Part Number: 150R 0603 1%; Watt: 100mW; EDM-PN: RES186; Package: RESC0603X60N; Text2: *; Reutech PN: 5905-93-1500; SAAB PN: *; DCE Part No: *
footprint RESC0603X60N (Chip Resistor, 0603, 2-Leads, Body 1.6x0.8mm, IPC Medium Density)
pins: 1, 2

## 150R_0805
designator R?, comment value 150R  Tol: 1%  Text1: 0805  (hidden comment: 150R_R0805_1%)
Resistor Chip SMD; Manufacturer: Various; Part Number: 150R 0805 1%; Watt: 125mW; Package: RESC0805X65N; EDM-PN: *; Text2: *; Reutech PN: *; SAAB PN: *; DCE Part No: *
footprint RESC0805X65N (Chip Resistor, 0805, 2-Leads, Body 2.0x1.3mm, IPC Medium Density)
pins: 1, 2

## 150R_1206
designator R?, comment value 150R  Tol: 1%  Text1: 1206  (hidden comment: 150R_R1206_1%)
Resistor Chip SMD; Manufacturer: Various; Part Number: 150R 1206 1%; Watt: 250mW; Package: RESC1206X71N; EDM-PN: *; Text2: *; Reutech PN: 5905-97-1500; SAAB PN: *; DCE Part No: *
footprint RESC1206X71N (Chip Resistor, 1206, 2-Leads, Body 3.2x1.6mm, IPC Medium Density)
pins: 1, 2

## 150R_2512-5%
designator R?, comment value 150R  Watt: 1W  Text1: 2512  (hidden comment: 150R_R2512_5%)
Resistor Chip SMD; Manufacturer: Various; Part Number: 150R 2512 5%; Tol: 5%; Package: RESC2512X71N; EDM-PN: *; Text2: *; Reutech PN: *; SAAB PN: *; DCE Part No: *
footprint RESC2512X71N (Chip Resistor, 2512, 2-Leads, Body 6.3x3.2mm, IPC Medium Density)
pins: 1, 2

## 154K_0402
designator R?, comment value 154K  Tol: 1%  Text1: 0402  (hidden comment: 154K_R0402_1%)
Resistor Chip SMD; Manufacturer: Various; Part Number: 154K 0402 1%; Watt: 63mW; Package: RESC0402X40N; EDM-PN: *; Text2: *; Reutech PN: *; SAAB PN: *; DCE Part No: *
footprint RESC0402X40N (Chip Resistor, 0402, 2-Leads, Body 1.1x0.5mm, IPC Medium Density)
pins: 1, 2

## 154K_0603
designator R?, comment value 154K  Tol: 1%  Text1: 0603  (hidden comment: 154K_R0603_1%)
Resistor Chip SMD; Manufacturer: Various; Part Number: 154K 0603 1%; Watt: 100mW; Package: RESC0603X60N; EDM-PN: *; Text2: *; Reutech PN: *; SAAB PN: *; DCE Part No: *
footprint RESC0603X60N (Chip Resistor, 0603, 2-Leads, Body 1.6x0.8mm, IPC Medium Density)
pins: 1, 2

## 154K_0805
designator R?, comment value 154K  Tol: 1%  Text1: 0805  (hidden comment: 154K_R0805_1%)
Resistor Chip SMD; Manufacturer: Various; Part Number: 154K 0805 1%; Watt: 125mW; Package: RESC0805X65N; EDM-PN: *; Text2: *; Reutech PN: *; SAAB PN: *; DCE Part No: *
footprint RESC0805X65N (Chip Resistor, 0805, 2-Leads, Body 2.0x1.3mm, IPC Medium Density)
pins: 1, 2

## 154K_0805-DNF
designator R?, comment value (154K)  Tol: 1%  Text1: 0805  (hidden comment: 154K_R0805_1%-DNF)
Resistor Chip SMD - Do not Fit; Manufacturer: Various; Part Number: DNF - 154K 0805 1%; Watt: 125mW; Package: RESC0805X65N; EDM-PN: *; Text2: *; Reutech PN: *; SAAB PN: *; DCE Part No: *
footprint RESC0805X65N (Chip Resistor, 0805, 2-Leads, Body 2.0x1.3mm, IPC Medium Density)
pins: 1, 2

## 154K_1206
designator R?, comment value 154K  Tol: 1%  Text1: 1206  (hidden comment: 154K_R1206_1%)
Resistor Chip SMD; Manufacturer: Various; Part Number: 154K 1206 1%; Watt: 250mW; Package: RESC1206X71N; EDM-PN: *; Text2: *; Reutech PN: *; SAAB PN: *; DCE Part No: *
footprint RESC1206X71N (Chip Resistor, 1206, 2-Leads, Body 3.2x1.6mm, IPC Medium Density)
pins: 1, 2

## 154R_0402
designator R?, comment value 154R  Tol: 1%  Text1: 0402  (hidden comment: 154R_R0402_1%)
Resistor Chip SMD; Manufacturer: Various; Part Number: 154R 0402 1%; Watt: 63mW; Package: RESC0402X40N; EDM-PN: *; Text2: *; Reutech PN: *; SAAB PN: *; DCE Part No: *
footprint RESC0402X40N (Chip Resistor, 0402, 2-Leads, Body 1.1x0.5mm, IPC Medium Density)
pins: 1, 2

## 154R_0603
designator R?, comment value 154R  Tol: 1%  Text1: 0603  (hidden comment: 154R_R0603_1%)
Resistor Chip SMD; Manufacturer: Various; Part Number: 154R 0603 1%; Watt: 100mW; Package: RESC0603X60N; EDM-PN: *; Text2: *; Reutech PN: *; SAAB PN: *; DCE Part No: *
footprint RESC0603X60N (Chip Resistor, 0603, 2-Leads, Body 1.6x0.8mm, IPC Medium Density)
pins: 1, 2